# Altium integrated library L7805CV.IntLib: 1 symbol
Pins are listed as number, name and electrical type; pins without a type are passive.

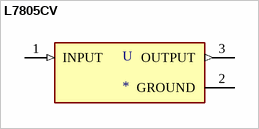
[diagram p0: symbol L7805CV]

## L7805CV
designator U
Linear Voltage Regulator IC 1 Output 1.5A TO-220AB; MP: L7805CV; MF: STMicroelectronics; Price: None; Package: TO-220 STMicroelectronics; Value: *; Availability: Unavailable; SnapEDA_Link: https://www.snapeda.com/parts/L7805CV/STMicroelectronics/view-part/501150/?ref=snap
footprint TO255P1040X460X1968-3
pins: 1 INPUT (in), 2 GROUND (power), 3 OUTPUT (out)